# Altium schematic symbol library Schlib1.SchLib: 3 symbols
Pins are listed as number, name and electrical type; pins without a type are passive.

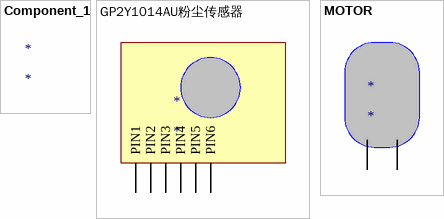
[diagram p0: symbols Component_1 to MOTOR]

## Component_1
designator *

## GP2Y1014AU粉尘传感器
designator *
pins: 199 PIN1, 200 PIN2, 201 PIN3, 202 PIN4, 203 PIN5, 204 PIN6

## MOTOR
designator *
pins: 205 PIN7, 206 PIN8